# Altium footprint library Sara.PcbLib: 34 footprints (part 1 of 3)
Each footprint in its own frame and in the unit in brackets; x right, y up, seen from the top. Pads: shape width x height; smd on the part's side, far side on the other; paste and mask are expansions set on the pad; w line width, h text height; cw(c..) or ccw(c..) is an arc to the next point about the centre after c.
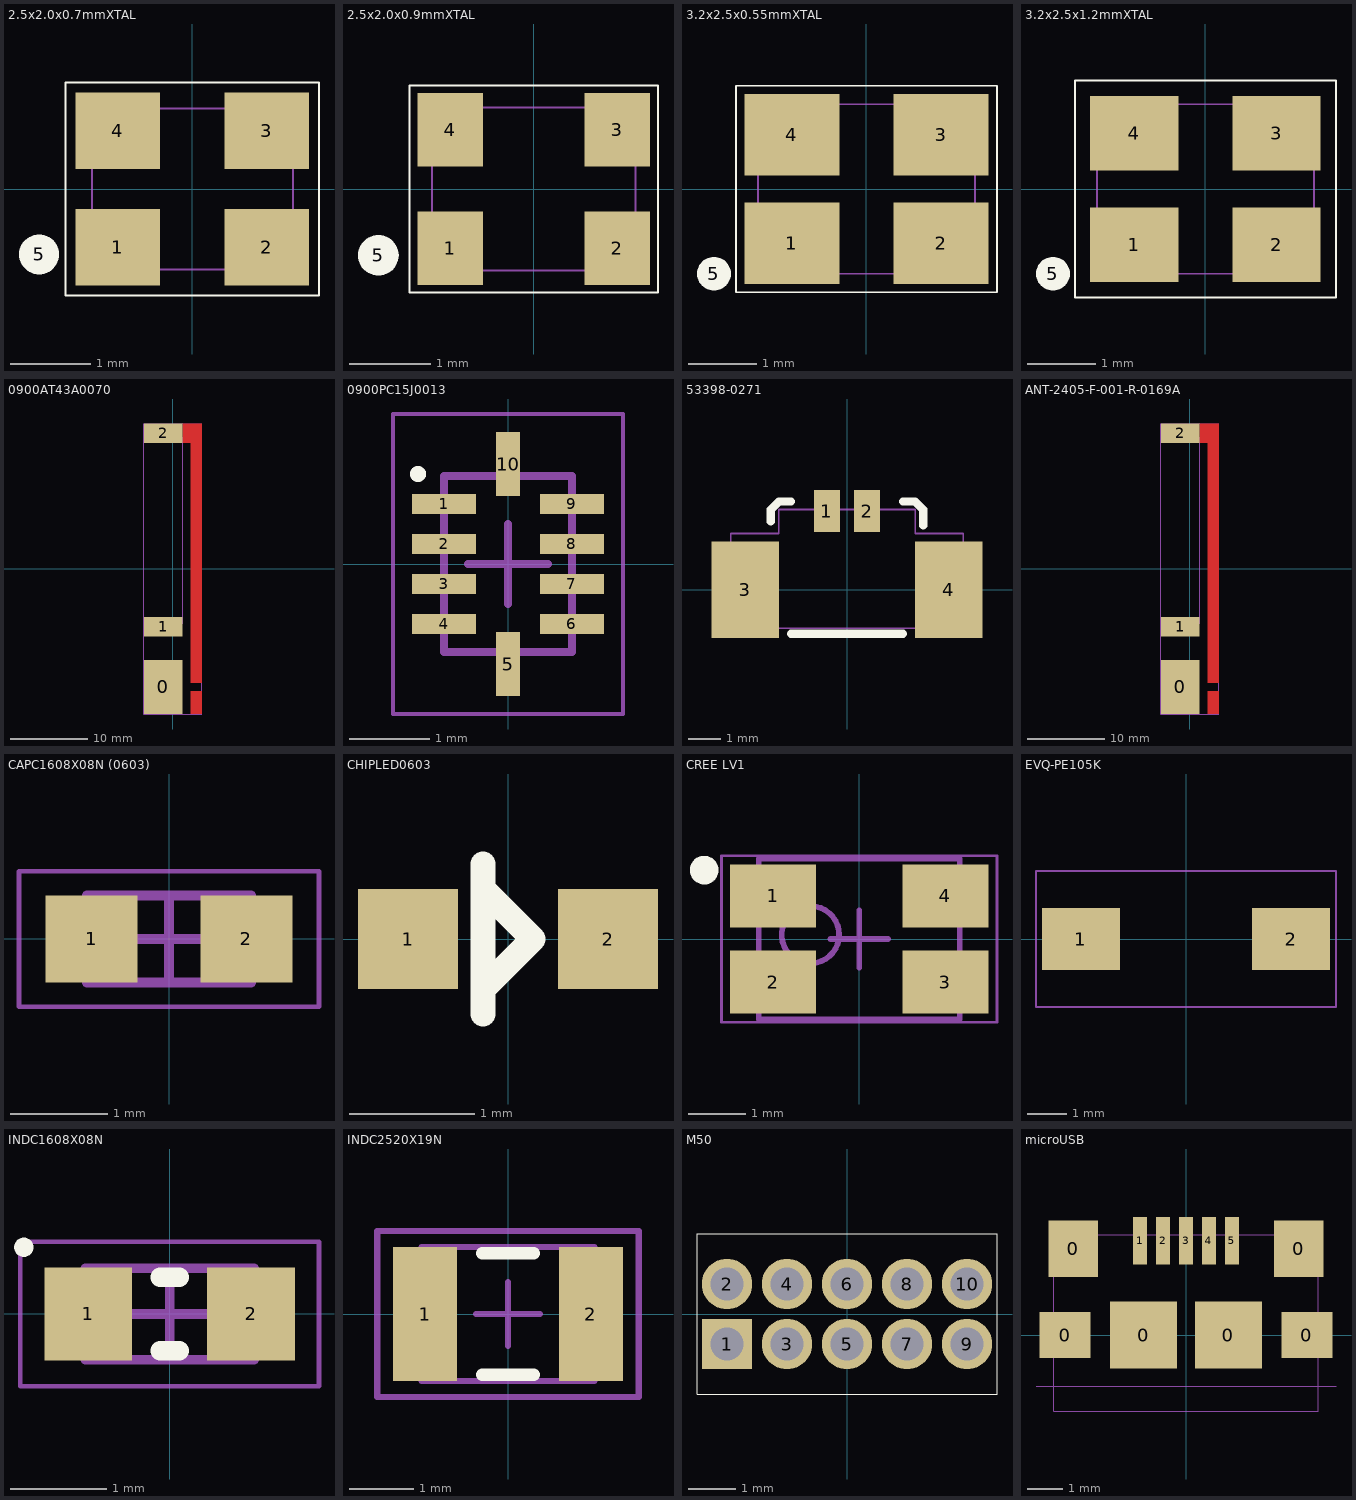
[diagram p0: the footprints below, top view; thin cyan lines are the x and y axes]

## 2.5x2.0x0.7mmXTAL [mm]
pads (5):
  rect 1.05x0.95 smd: 1(-0.925,-0.725) 2(0.925,-0.725) 3(0.925,0.725) 4(-0.925,0.725)
  round 0.5 on Top Overlay: 5(-1.905,-0.813)
Top Overlay:
  lines w0.025: -1.575,-1.325 -1.575,1.325 1.575,1.325 1.575,-1.325 -1.575,-1.325
Mechanical 1:
  lines w0.025: -1.25,-1 -1.25,1 1.25,1 1.25,-1 -1.25,-1
3D body "User Library-VCXO 2_5x2_0.step": height 0.7, standoff -0.01, extent -1.25,-1 1.25,1

## 2.5x2.0x0.9mmXTAL [mm]
pads (5):
  rect 0.8x0.9 smd: 1(-1.025,-0.725) 2(1.025,-0.725) 3(1.025,0.725) 4(-1.025,0.725)
  round 0.5 on Top Overlay: 5(-1.905,-0.813)
Top Overlay:
  lines w0.025: -1.524,-1.27 1.524,-1.27 1.524,1.27 -1.524,1.27 -1.524,-1.27
Mechanical 1:
  lines w0.025: -1.25,-1 1.25,-1 1.25,1 -1.25,1 -1.25,-1
3D body "User Library-ABM10_Xtal.step": height 0.7, standoff -0.01, extent -1.3,-1.059 1.3,1.041

## 3.2x2.5x0.55mmXTAL [mm]
pads (5):
  rect 1.4x1.2 smd: 1(-1.1,-0.8) 2(1.1,-0.8) 3(1.1,0.8) 4(-1.1,0.8)
  round 0.5 on Top Overlay: 5(-2.25,-1.25)
Top Overlay:
  lines w0.025: -1.925,-1.525 -1.925,1.525 1.925,1.525 1.925,-1.525 -1.925,-1.525
Mechanical 1:
  lines w0.025: -1.6,-1.25 -1.6,1.25 1.6,1.25 1.6,-1.25 -1.6,-1.25
3D body "User Library-XTAL-3_2x2_5.STEP": height 0.91, standoff -0.01, extent -1.6,-1.25 1.6,1.25

## 3.2x2.5x1.2mmXTAL [mm]
pads (5):
  rect 1.3x1.1 smd: 1(-1.05,-0.825) 2(1.05,-0.825) 3(1.05,0.825) 4(-1.05,0.825)
  round 0.5 on Top Overlay: 5(-2.25,-1.25)
Top Overlay:
  lines w0.025: -1.925,-1.6 1.925,-1.6 1.925,1.6 -1.925,1.6 -1.925,-1.6
Mechanical 1:
  lines w0.025: -1.6,-1.25 1.6,-1.25 1.6,1.25 -1.6,1.25 -1.6,-1.25
3D body "User Library-XTAL-3_2x2_5.STEP": height 0.91, standoff -0.01, extent -1.6,-1.25 1.6,1.25

## 0900AT43A0070 [mm]
height 1.6
pads (3):
  rect 5x7 smd: 0(-1.25,-15.25)
  rect 5x2.5 smd: 1(-1.25,-7.5) 2(-1.25,17.5)
Top Layer:
  rectangle: 2.25,-18.75 3.75,-15.75
  rectangle: 2.25,-14.75 3.75,18.75
  rectangle: 1.25,16.25 2.25,18.75
Mechanical 1:
  lines w0.025: -3.75,-18.75 3.75,-18.75 3.75,18.75 -3.75,18.75 -3.75,-18.75
  lines w0.1: -3.75,-7 -3.75,17 1.25,17 1.25,-7 -3.75,-7
3D body: height 1.6, standoff 0, extent -3.75,-7 1.25,17

## 0900PC15J0013 [mm]
pads (10):
  rect 0.8x0.25 smd: 1(-0.8,0.75) 2(-0.8,0.25) 3(-0.8,-0.25) 4(-0.8,-0.75) 6(0.8,-0.75) 7(0.8,-0.25) 8(0.8,0.25) 9(0.8,0.75)
  rect 0.3x0.8 smd: 5(0,-1.25) 10(0,1.25)
Top Overlay:
  circle w0.1: c-1.125,1.125 r0.05
Mechanical 13:
  lines w0.1: -0.8,-1.1 0.8,-1.1 0.8,1.1 -0.8,1.1 -0.8,-1.1
Mechanical 15:
  lines w0.05: -1.435,-1.875 1.435,-1.875 1.435,1.875 -1.435,1.875 -1.435,-1.875
  lines w0.1: -0.5,0 0.5,0 ; 0,-0.5 0,0.5
3D body: height 1, standoff 0, extent -0.725,-1.1 0.725,1.1

## 53398-0271 [mm] "1.25mm Pitch PicoBlade™ Header, Surface Mount, Vertical, Lead-Free, 2 Circuits"
height 5
pads (4):
  rect 0.8x1.3 smd: 1(-0.625,2.45) 2(0.625,2.45)
  rect 2.1x3 smd: 3(-3.175,0) 4(3.175,0)
Top Overlay:
  lines w0.254: -2.375,2.125 -2.375,2.5 -2.125,2.75 -1.75,2.75 ; -1.75,-1.375 1.75,-1.375 ; 1.75,2.75 2.125,2.75 2.375,2.5 2.375,2
Mechanical 13:
  lines w0.051: -3.625,-1.2 3.625,-1.2 3.625,1.75 2.125,1.75 2.125,2.5 -2.125,2.5 -2.125,1.75 -3.625,1.75 -3.625,-1.2
3D body "533980271.stp": height 4.7, standoff 0, extent -3.825,-1.325 3.825,2.875

## ANT-2405-F-001-R-0169A [mm]
height 1.6
pads (3):
  rect 5x7 smd: 0(-1.25,-15.25)
  rect 5x2.5 smd: 1(-1.25,-7.5) 2(-1.25,17.5)
Top Layer:
  rectangle: 1.25,16.25 2.25,18.75
  rectangle: 2.25,-14.75 3.75,18.75
  rectangle: 2.25,-18.75 3.75,-15.75
Mechanical 1:
  lines w0.025: -3.75,-18.75 -3.75,18.75 3.75,18.75 3.75,-18.75 -3.75,-18.75
  lines w0.1: -3.75,-7 1.25,-7 1.25,17 -3.75,17 -3.75,-7
3D body: height 1.6, standoff 0, extent -3.75,-7 1.25,17

## CAPC1608X08N (0603) [mm] "Chip Capacitor, 2-Leads, Body 1.60x0.80mm, IPC Medium Density"
height 0.8
pads (2):
  rect 0.95x0.9 smd: 1(-0.8,0) 2(0.8,0)
Mechanical 13:
  lines w0.1: -0.85,-0.45 -0.85,0.45 0.85,0.45 0.85,-0.45 -0.85,-0.45
Mechanical 15:
  lines w0.05: -1.55,-0.7 -1.55,0.7 1.55,0.7 1.55,-0.7 -1.55,-0.7
  lines w0.1: -0.45,0 0.45,0 ; 0,-0.45 0,0.45
3D body: height 0.8, standoff 0, extent -0.5,-0.45 0.5,0.45
3D body: height 0.8, standoff 0, extent -0.85,-0.45 -0.5,0.45
3D body: height 0.8, standoff 0, extent 0.5,-0.45 0.85,0.45

## CHIPLED0603 [mm]
height 0.5
pads (2):
  rect 0.8x0.8 smd: 1(-0.8,0) 2(0.8,0)
Top Overlay:
  lines w0.203: -0.2,-0.6 -0.2,0.6 ; -0.2,-0.4 0.2,0 -0.2,0.4
3D body "User Library-led_0603.step": height 0.6, standoff 0, extent -0.81,-0.4 0.81,0.4

## CREE LV1 [mm]
height 2.1
pads (4):
  rect 1.5x1.1 smd: 1(-1.5,0.75) 2(-1.5,-0.75) 3(1.5,-0.75) 4(1.5,0.75)
Top Overlay:
  circle w0.25: c-2.7,1.2 r0.125
Mechanical 13:
  circle w0.1: c-0.85,0.075 r0.5
  lines w0.1: -1.75,-1.4 -1.75,1.4 1.75,1.4 1.75,-1.4 -1.75,-1.4
Mechanical 15:
  lines w0.05: -2.4,-1.45 2.4,-1.45 2.4,1.45 -2.4,1.45 -2.4,-1.45
  lines w0.1: -0.5,0 0.5,0 ; 0,-0.5 0,0.5
3D body "User Library-PLCC4RGBCT-CA LED SMD RGB.step": height 1.9, standoff 0, extent -1.75,-1.4 1.75,1.4

## EVQ-PE105K [mm]
height 0.5
pads (2):
  rect 2x1.6 smd: 1(-2.7,0) 2(2.7,0)
Mechanical 15:
  lines w0.05: -3.85,-1.75 3.85,-1.75 3.85,1.75 -3.85,1.75 -3.85,-1.75
3D body "User Library-EVQ-PE105K.step": height 5, standoff 0, extent -3.6,-1.75 3.6,1.75

## INDC1608X08N [mm] "Chip Inductor, 2-Leads, Body 1.60x0.80mm, IPC Medium Density"
height 0.8
pads (2):
  rect 0.91x0.96 smd: 1(-0.845,0) 2(0.845,0)
Top Overlay:
  circle w0.1: c-1.512,0.692 r0.05
  lines w0.2: -0.1,-0.38 0.1,-0.38 ; -0.1,0.38 0.1,0.38
Mechanical 13:
  lines w0.1: -0.875,-0.475 -0.875,0.475 0.875,0.475 0.875,-0.475 -0.875,-0.475
Mechanical 15:
  lines w0.05: -1.55,-0.75 -1.55,0.75 1.55,0.75 1.55,-0.75 -1.55,-0.75
  lines w0.1: -0.475,0 0.475,0 ; 0,-0.475 0,0.475
3D body: height 0.8, standoff 0, extent -0.525,-0.475 0.525,0.475
3D body: height 0.8, standoff 0, extent -0.875,-0.475 -0.525,0.475
3D body: height 0.8, standoff 0, extent 0.525,-0.475 0.875,0.475

## INDC2520X19N [mm] "Chip Inductor, 2-Leads, Body 2.5x2.0mm, IPC Medium Density"
height 1.9
pads (2):
  rect 1x2.1 smd: 1(-1.3,0) 2(1.3,0)
Top Overlay:
  lines w0.2: -0.4,-0.95 0.4,-0.95 ; -0.4,0.95 0.4,0.95
Mechanical 13:
  lines w0.1: -1.35,-1.05 -1.35,1.05 1.35,1.05 1.35,-1.05 -1.35,-1.05
Mechanical 15:
  lines w0.1: -0.5,0 0.5,0 ; 0,-0.5 0,0.5 ; -2.05,-1.3 -2.05,1.3 2.05,1.3 2.05,-1.3 -2.05,-1.3
3D body: height 1.9, standoff 0, extent -1.35,-1.05 1.35,1.05

## M50 [mil]
pads (10):
  rect 42x42 hole 27.56: 1(-100,-25)
  round 42 hole 27.56: 2(-100,25) 3(-50,-25) 4(-50,25) 5(0,-25) 6(0,25) 7(50,-25) 8(50,25) 9(100,-25) 10(100,25)
Top Overlay:
  lines w1: -125,-66.93 -125,66.93 125,66.93 125,-66.93 -125,-66.93
3D body "26008.stp": height 157.48, standoff -90.55, extent -125,-66.93 125,66.93

## microUSB [mm]
pads (11):
  rect 1.45x1.3 smd: 0(-3.425,0) 0(3.425,0)
  rect 1.4x1.6 smd: 0(-3.2,2.45) 0(3.2,2.45)
  rect 1.9x1.9 smd: 0(-1.2,0) 0(1.2,0)
  rect 0.4x1.35 smd: 1(-1.3,2.675) 2(-0.65,2.675) 3(0,2.675) 4(0.65,2.675) 5(1.3,2.675)
Mechanical 1:
  lines w0.025: -4.25,-1.45 4.25,-1.45
Mechanical 13:
  lines w0.025: -3.75,-2.15 -3.75,2.85 3.75,2.85 3.75,-2.15 -3.75,-2.15
3D body "micro_usb_47346-0001.STEP": height 2.72, standoff -0.22, extent -3.99,-2.591 3.99,2.839